# Altium footprint library S2B-XH-A_LF__SN_.PcbLib: 2 footprints
Each footprint in its own frame and in the unit in brackets; x right, y up, seen from the top. Pads: shape width x height; smd on the part's side, far side on the other; paste and mask are expansions set on the pad; w line width, h text height; cw(c..) or ccw(c..) is an arc to the next point about the centre after c.
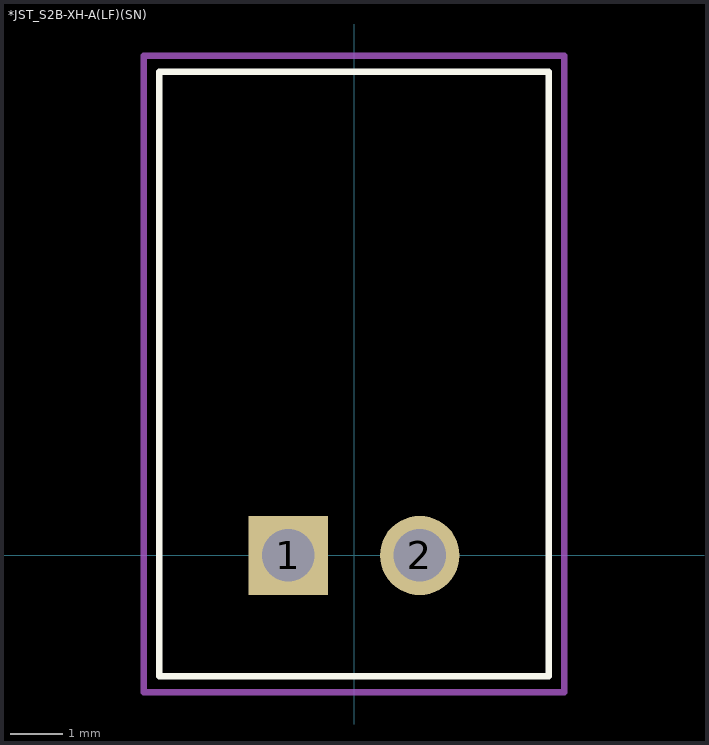
[diagram p0: the footprints below, top view; thin cyan lines are the x and y axes]

## *JST_S2B-XH-A(LF)(SN) [mm]
pads (2):
  rect 1.508x1.508 hole 1: 1(-1.25,0)
  round 1.508 hole 1: 2(1.25,0)
Top Overlay:
  lines w0.127: -3.7,-2.3 -3.7,9.2 3.7,9.2 3.7,-2.3 -3.7,-2.3
Mechanical 16:
  lines w0.127: -4,-2.6 -4,9.5 4,9.5 4,-2.6 -4,-2.6
3D body "S2B-XH-A-LF--SN---3DModel-STEP-1.STEP": height 6.1, standoff -3.4, extent -3.7,-2.321 3.7,9.179

## PCBComponent_1 [mm]